# EAGLE library part SIM521X (library X893)
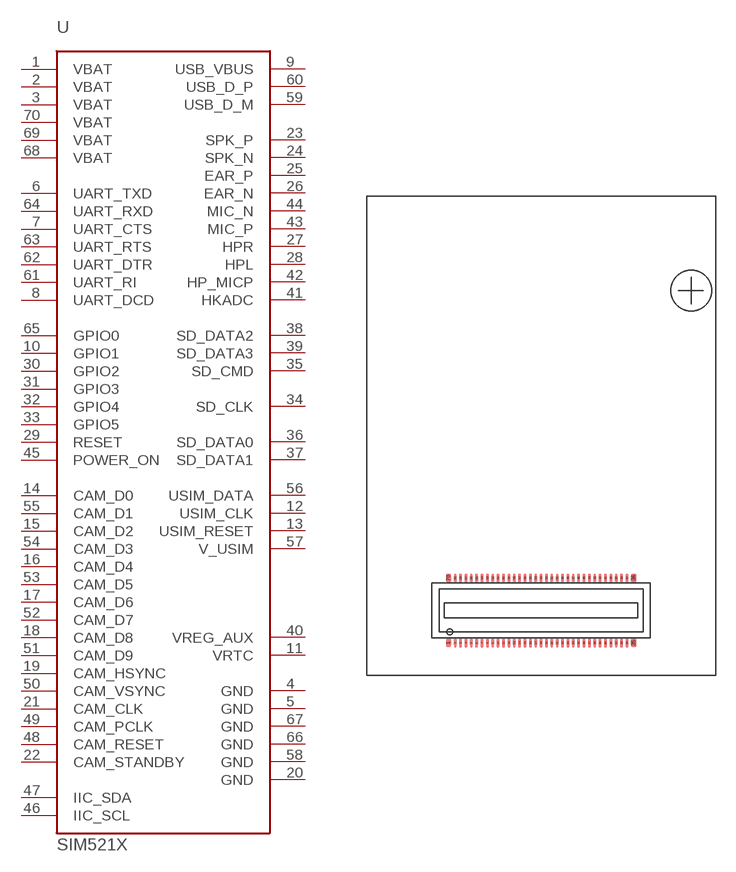
[diagram p224: symbol with the pads of AXK770247G; footprint AXK770247G]

Designator prefix U

## SIM521X  [AXK770247G]
1  VBAT  pwr
2  VBAT  pwr
3  VBAT  pwr
4  GND  pwr
5  GND  pwr
6  UART_TXD
7  UART_CTS
8  UART_DCD  out
9  USB_VBUS  pas
10  GPIO1
11  VRTC  pas
12  USIM_CLK
13  USIM_RESET  out
14  CAM_D0
15  CAM_D2
16  CAM_D4
17  CAM_D6
18  CAM_D8
19  CAM_HSYNC
20  GND  pwr
21  CAM_CLK
22  CAM_STANDBY
23  SPK_P  pas
24  SPK_N  pas
25  EAR_P  pas
26  EAR_N  pas
27  HPR  pas
28  HPL  pas
29  RESET  in
30  GPIO2
31  GPIO3
32  GPIO4
33  GPIO5
34  SD_CLK
35  SD_CMD
36  SD_DATA0
37  SD_DATA1
38  SD_DATA2
39  SD_DATA3
40  VREG_AUX  pas
41  HKADC  pas
42  HP_MICP  pas
43  MIC_P  pas
44  MIC_N  pas
45  POWER_ON  in
46  IIC_SCL
47  IIC_SDA
48  CAM_RESET
49  CAM_PCLK
50  CAM_VSYNC
51  CAM_D9
52  CAM_D7
53  CAM_D5
54  CAM_D3
55  CAM_D1
56  USIM_DATA
57  V_USIM  pas
58  GND  pwr
59  USB_D_M
60  USB_D_P
61  UART_RI  out
62  UART_DTR  in
63  UART_RTS
64  UART_RXD
65  GPIO0
66  GND  pwr
67  GND  pwr
68  VBAT  pwr
69  VBAT  pwr
70  VBAT  pwr

## Footprint AXK770247G (pad centres in mm)
smd 0.4 x 0.65: 1 -6.9,-2.425; 35 6.9,-2.425; 36 6.9,2.425; 70 -6.9,2.425
smd 0.2 x 0.65: 2 -6.4,-2.425; 3 -6,-2.425; 4 -5.6,-2.425; 5 -5.2,-2.425; 6 -4.8,-2.425; 7 -4.4,-2.425; 8 -4,-2.425; 9 -3.6,-2.425; 10 -3.2,-2.425; 11 -2.8,-2.425; 12 -2.4,-2.425; 13 -2,-2.425; 14 -1.6,-2.425; 15 -1.2,-2.425; 16 -0.8,-2.425; 17 -0.4,-2.425; 18 0,-2.425; 19 0.4,-2.425; 20 0.8,-2.425; 21 1.2,-2.425; 22 1.6,-2.425; 23 2,-2.425; 24 2.4,-2.425; 25 2.8,-2.425; 26 3.2,-2.425; 27 3.6,-2.425; 28 4,-2.425; 29 4.4,-2.425; 30 4.8,-2.425; 31 5.2,-2.425; 32 5.6,-2.425; 33 6,-2.425; 34 6.4,-2.425; 37 6.4,2.425; 38 6,2.425; 39 5.6,2.425; 40 5.2,2.425; 41 4.8,2.425; 42 4.4,2.425; 43 4,2.425; 44 3.6,2.425; 45 3.2,2.425; 46 2.8,2.425; 47 2.4,2.425; 48 2,2.425; 49 1.6,2.425; 50 1.2,2.425; 51 0.8,2.425; 52 0.4,2.425; 53 0,2.425; 54 -0.4,2.425; 55 -0.8,2.425; 56 -1.2,2.425; 57 -1.6,2.425; 58 -2,2.425; 59 -2.4,2.425; 60 -2.8,2.425; 61 -3.2,2.425; 62 -3.6,2.425; 63 -4,2.425; 64 -4.4,2.425; 65 -4.8,2.425; 66 -5.2,2.425; 67 -5.6,2.425; 68 -6,2.425; 69 -6.4,2.425